# Altium schematic symbol library Regulator_Current.SchLib: 2 symbols
Pins are listed as number, name and electrical type; pins without a type are passive.

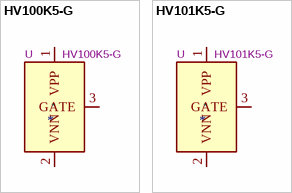
[diagram p0: symbols HV100K5-G to HV101K5-G]

## HV100K5-G
designator *  value HV100K5-G  Reference: U
ki_keywords: Hot-Swap Current Limiter; ki_description: Hot-Swap Current Limiter Controller, SOT223; ki_fp_filters: SOT?223*TabPin2*; Footprint: Package_TO_SOT_SMD:SOT-223-3_TabPin2; Datasheet: http://ww1.microchip.com/downloads/en/devicedoc/hv100%20b060513.pdf
pins: 1 VPP, 2 VNN, 3 GATE

## HV101K5-G
designator *  value HV101K5-G  Reference: U
ki_keywords: Hot-Swap Current Limiter; ki_description: Hot-Swap Current Limiter Controller, SOT223; ki_fp_filters: SOT?223*TabPin2*; Footprint: Package_TO_SOT_SMD:SOT-223-3_TabPin2; Datasheet: http://www.supertex.com/pdf/datasheets/HV100.pdf
pins: 1 VPP, 2 VNN, 3 GATE